# EAGLE library part AVR-ISP (library Protofusion)
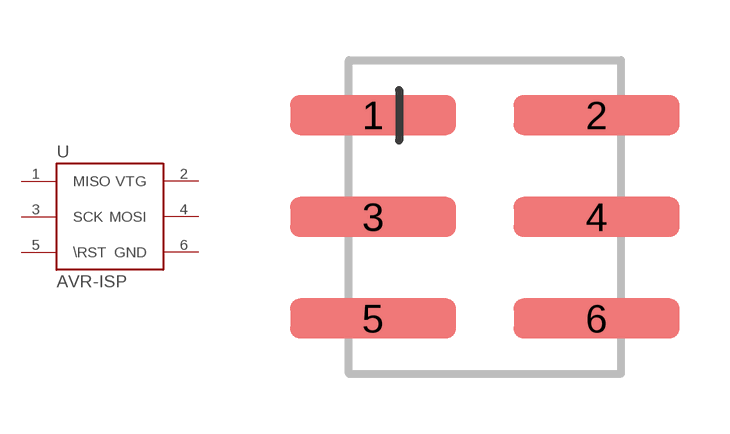
[diagram p5: symbol with the pads of 2X3-PINHEADER-SMT; footprint 2X3-PINHEADER-SMT]

Designator prefix -

## AVR-ISP  [2X3-PINHEADER-SMT]
1  MISO
2  VTG
3  SCK
4  MOSI
5  \RST
6  GND

## Footprint 2X3-PINHEADER-SMT (pad centres in mm)
smd 4.15 x 1: 1 -2.794,0; 2 2.794,0; 3 -2.794,-2.54; 4 2.794,-2.54; 5 -2.794,-5.08; 6 2.794,-5.08